# EAGLE library part LT3476 (library linear_tech_opendcc)
LT3476 - High Current Quad Output LED Driver True Color PWM Dimming Delivers Up to 1000:1 Dimming Ratio LED Current Regulation with High-Side Sense VADJ Pin Accurately Sets LED Current Sense Threshold Over Range 10mV to 120mV Four Independent Driver Channels with 1.5A, 36V Internal NPN Switches Frequency Adjust Pin: 200kHz to 2MHz High Efﬁciency Conversion = Up to 96% Open LED Protection Low Quiescent Current 22mA in Active Mode <10µA in Shutdown Mode Wide VIN Range: 2.8V to 16V Thermally Enhanced, 38-Lead, 5mm × 7mm QFN Package
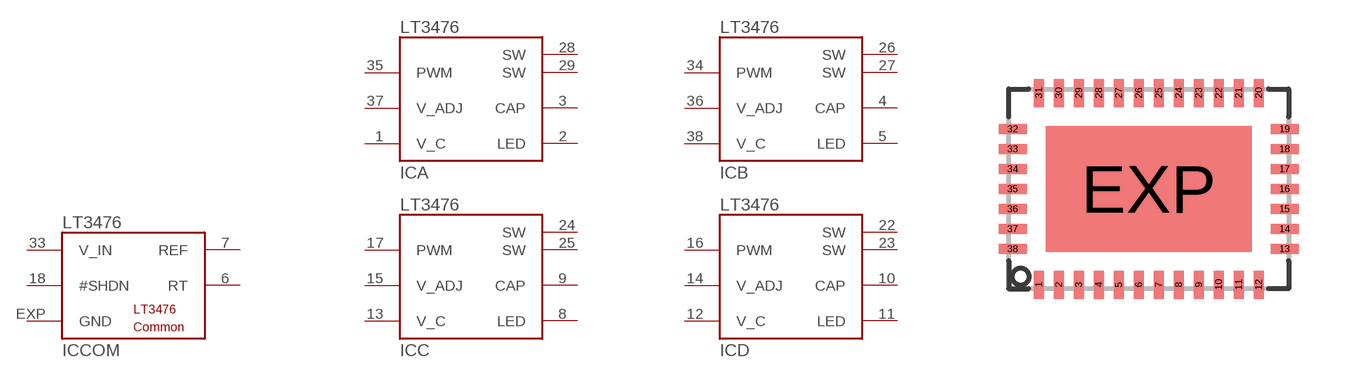
[diagram p8: symbol with the pads of QFN38_EXP; footprint QFN38_EXP]

Designator prefix IC; gates COM=LT3476_COMMON A=LT3476_SWITCH B=LT3476_SWITCH C=LT3476_SWITCH D=LT3476_SWITCH

## LT3476  [QFN38_EXP]
1  A:V_C  pas
2  A:LED  pas
3  A:CAP  pas
4  B:CAP  pas
5  B:LED  pas
6  COM:RT  pas
7  COM:REF  pas
8  C:LED  pas
9  C:CAP  pas
10  D:CAP  pas
11  D:LED  pas
12  D:V_C  pas
13  C:V_C  pas
14  D:V_ADJ  pas
15  C:V_ADJ  pas
16  D:PWM  pas
17  C:PWM  pas
18  COM:#SHDN  pas
22  D:SW  pas
23  D:SW  pas
24  C:SW  pas
25  C:SW  pas
26  B:SW  pas
27  B:SW  pas
28  A:SW  pas
29  A:SW  pas
33  COM:V_IN  pas
34  B:PWM  pas
35  A:PWM  pas
36  B:V_ADJ  pas
37  A:V_ADJ  pas
38  B:V_C  pas
EXP  COM:GND  pas

## Footprint QFN38_EXP (pad centres in mm)
QFN38, exposed Pad
smd 0.25 x 0.7: 1 -2.75,-2.4; 2 -2.25,-2.4; 3 -1.75,-2.4; 4 -1.25,-2.4; 5 -0.75,-2.4; 6 -0.25,-2.4; 7 0.25,-2.4; 8 0.75,-2.4; 9 1.25,-2.4; 10 1.75,-2.4; 11 2.25,-2.4; 12 2.75,-2.4; 20 2.75,2.4; 21 2.25,2.4; 22 1.75,2.4; 23 1.25,2.4; 24 0.75,2.4; 25 0.25,2.4; 26 -0.25,2.4; 27 -0.75,2.4; 28 -1.25,2.4; 29 -1.75,2.4; 30 -2.25,2.4; 31 -2.75,2.4
smd 0.7 x 0.25: 13 3.4,-1.5; 14 3.4,-1; 15 3.4,-0.5; 16 3.4,0; 17 3.4,0.5; 18 3.4,1; 19 3.4,1.5; 32 -3.4,1.5; 33 -3.4,1; 34 -3.4,0.5; 35 -3.4,0; 36 -3.4,-0.5; 37 -3.4,-1; 38 -3.4,-1.5
smd 5.15 x 3.15: EXP 0,0